# Altium footprint library SW_219-2MSTR.PcbLib: 1 footprints
Each footprint in its own frame and in the unit in brackets; x right, y up, seen from the top. Pads: shape width x height; smd on the part's side, far side on the other; paste and mask are expansions set on the pad; w line width, h text height; cw(c..) or ccw(c..) is an arc to the next point about the centre after c.
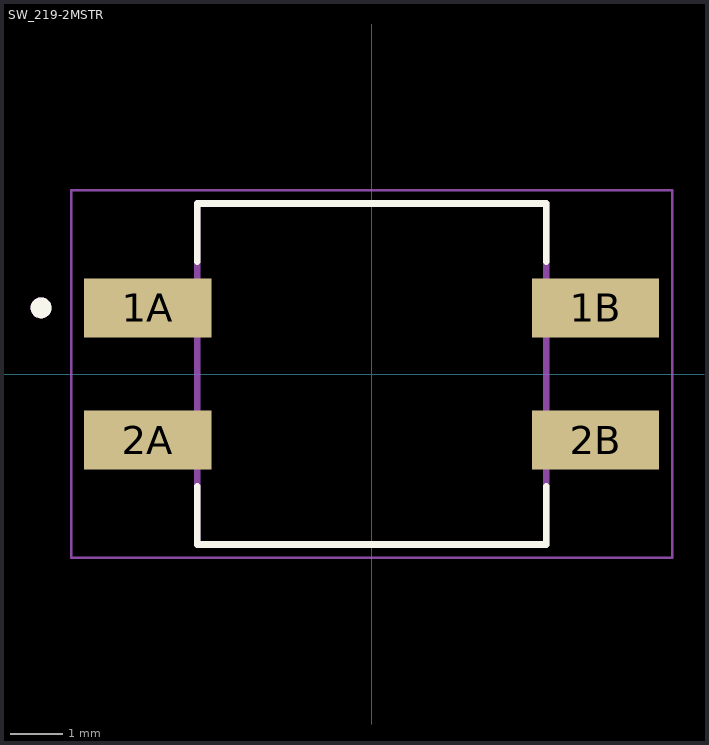
[diagram p0: the footprint, top view; thin cyan lines are the x and y axes]

## SW_219-2MSTR [mm]
height 3.85
pads (4):
  rect 2.44x1.13 smd: 1A(-4.3,1.27) 1B(4.3,1.27) 2A(-4.3,-1.27) 2B(4.3,-1.27)
Top Overlay:
  circle w0.2: c-6.35,1.27 r0.1
  lines w0.127: -3.35,-2.155 -3.35,-3.275 3.35,-3.275 3.35,-2.155 ; -3.35,2.155 -3.35,3.275 3.35,3.275 3.35,2.155
Assembly Top:
  circle w0.2: c-6.35,1.27 r0.1
  lines w0.127: -3.35,-3.275 3.35,-3.275 3.35,3.275 -3.35,3.275 -3.35,-3.275
Courtyard Top:
  lines w0.05: -5.77,-3.525 -5.77,3.525 5.77,3.525 5.77,-3.525 -5.77,-3.525
3D body "step_temp.STEP": height 4.58, standoff 0, extent -4.955,-3.275 4.955,3.275